# Altium footprint library con-pinhead.PcbLib: 23 footprints (part 1 of 2)
Each footprint in its own frame and in the unit in brackets; x right, y up, seen from the top. Pads: shape width x height; smd on the part's side, far side on the other; paste and mask are expansions set on the pad; w line width, h text height; cw(c..) or ccw(c..) is an arc to the next point about the centre after c.
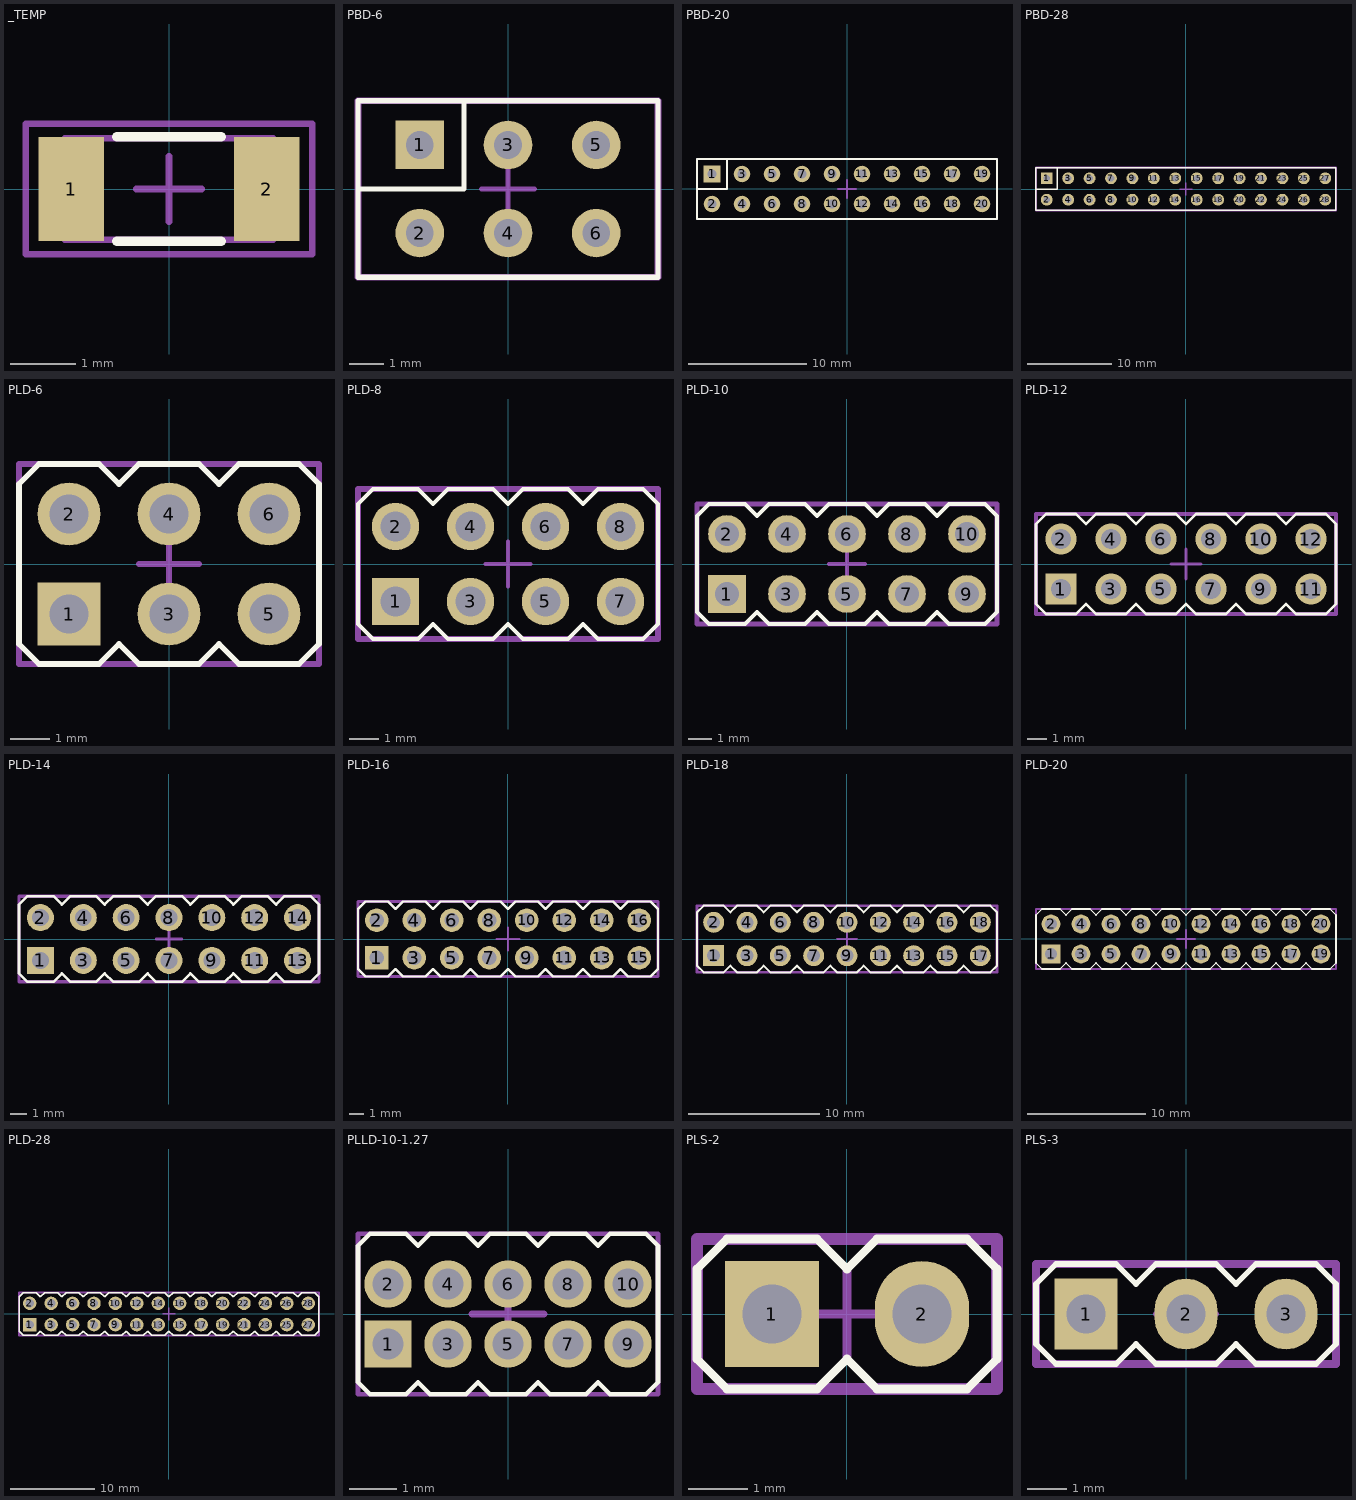
[diagram p0: the footprints below, top view; thin cyan lines are the x and y axes]

## _TEMP [mm]
height 0.6
pads (2):
  rect 1x1.6 smd: 1(-1.5,0) 2(1.5,0)
Top Overlay:
  lines w0.15: -0.8,-0.8 0.8,-0.8 ; -0.8,0.8 0.8,0.8
Top Assembly (Mech3):
  lines w0.1: -1.6,-0.775 1.6,-0.775 1.6,0.775 -1.6,0.775 -1.6,-0.775
Top Courtyard:
  lines w0.1: -0.5,0 0.5,0 ; 0,-0.5 0,0.5 ; -2.2,-1 -2.2,1 2.2,1 2.2,-1 -2.2,-1
3D body "chip_1206_r.STEP": height 0.47, standoff -0.03, extent -1.65,-0.8 1.55,0.8

## PBD-6 [mm]
height 8.5
pads (6):
  rect 1.4x1.4 hole 0.8: 1(-2.54,1.27)
  round 1.4 hole 0.8: 2(-2.54,-1.27) 3(0,1.27) 4(0,-1.27) 5(2.54,1.27) 6(2.54,-1.27)
Top Overlay:
  lines w0.15: -1.27,2.54 -1.27,0 -4.318,0 ; -4.318,0 -4.318,-2.54 4.318,-2.54 4.318,0 4.318,2.54 -4.318,2.54 -4.318,0
Top Assembly (Mech3):
  lines w0.15: -4.318,-2.54 4.318,-2.54 4.318,0 4.318,2.54 -4.318,2.54 -4.318,0 -4.318,-2.54
Top Courtyard:
  lines w0.15: -0.762,0 0.762,0 ; 0,-0.762 0,0.762
  lines w0.2: -4.318,-2.54 -4.318,2.54 4.318,2.54 4.318,-2.54 -4.318,-2.54
3D body "DS1023-2x3SF11.stp": height 8.5, standoff -3, extent -4.21,-2.54 4.21,2.46

## PBD-20 [mm]
height 8.5
pads (20):
  rect 1.4x1.4 hole 0.8: 1(-11.43,1.27)
  round 1.4 hole 0.8: 2(-11.43,-1.27) 3(-8.89,1.27) 4(-8.89,-1.27) 5(-6.35,1.27) 6(-6.35,-1.27) 7(-3.81,1.27) 8(-3.81,-1.27) 9(-1.27,1.27) 10(-1.27,-1.27) 11(1.27,1.27) 12(1.27,-1.27) 13(3.81,1.27) 14(3.81,-1.27) 15(6.35,1.27) 16(6.35,-1.27) 17(8.89,1.27) 18(8.89,-1.27) 19(11.43,1.27) 20(11.43,-1.27)
Top Overlay:
  lines w0.15: -10.16,2.54 -10.16,0 -12.7,0 ; -12.7,0 -12.7,-2.54 12.7,-2.54 12.7,0 12.7,2.54 -12.7,2.54 -12.7,0
Top Assembly (Mech3):
  lines w0.15: -12.7,-2.54 12.7,-2.54 12.7,0 12.7,2.54 -12.7,2.54 -12.7,0 -12.7,-2.54
Top Courtyard:
  lines w0.15: -0.762,0 0.762,0 ; 0,-0.762 0,0.762
  lines w0.2: -12.7,-2.54 -12.7,2.54 12.7,2.54 12.7,-2.54 -12.7,-2.54
3D body "User Library-PBD2_54-20.STEP": height 8.4, standoff -2.7, extent -12.7,-2.54 12.7,2.54

## PBD-28 [mm]
height 8.5
pads (28):
  rect 1.4x1.4 hole 0.8: 1(-16.51,1.27)
  round 1.4 hole 0.8: 2(-16.51,-1.27) 3(-13.97,1.27) 4(-13.97,-1.27) 5(-11.43,1.27) 6(-11.43,-1.27) 7(-8.89,1.27) 8(-8.89,-1.27) 9(-6.35,1.27) 10(-6.35,-1.27) 11(-3.81,1.27) 12(-3.81,-1.27) 13(-1.27,1.27) 14(-1.27,-1.27) 15(1.27,1.27) 16(1.27,-1.27) 17(3.81,1.27) 18(3.81,-1.27) 19(6.35,1.27) 20(6.35,-1.27) 21(8.89,1.27) 22(8.89,-1.27) 23(11.43,1.27) 24(11.43,-1.27) 25(13.97,1.27) 26(13.97,-1.27) 27(16.51,1.27) 28(16.51,-1.27)
Top Overlay:
  lines w0.15: -15.24,2.54 -15.24,0 -17.78,0 ; -17.78,0 -17.78,-2.54 17.78,-2.54 17.78,0 17.78,2.54 -17.78,2.54 -17.78,0
Top Assembly (Mech3):
  lines w0.15: -17.78,-2.54 17.78,-2.54 17.78,0 17.78,2.54 -17.78,2.54 -17.78,0 -17.78,-2.54
Top Courtyard:
  lines w0.15: -0.762,0 0.762,0 ; 0,-0.762 0,0.762
  lines w0.2: -17.78,-2.54 -17.78,2.54 17.78,2.54 17.78,-2.54 -17.78,-2.54
3D body "User Library-PBD2_54-28.STEP": height 8.4, standoff -2.7, extent -17.78,-2.54 17.78,2.54

## PLD-6 [mm]
height 6
pads (6):
  rect 1.6x1.6 hole 1: 1(-2.54,-1.27)
  round 1.6 hole 1: 2(-2.54,1.27) 3(0,-1.27) 4(0,1.27) 5(2.54,-1.27) 6(2.54,1.27)
Top Overlay:
  lines w0.15: -3.81,-2.032 -3.302,-2.54 -1.778,-2.54 -1.27,-2.032 -0.762,-2.54 0.762,-2.54 1.27,-2.032 1.778,-2.54 3.302,-2.54 3.81,-2.032 3.81,2.032 3.302,2.54 1.778,2.54 1.27,2.032 0.762,2.54 -0.762,2.54 -1.27,2.032 -1.778,2.54 -3.302,2.54 -3.81,2.032 -3.81,-2.032
Top Assembly (Mech3):
  lines w0.15: -3.81,-2.54 3.81,-2.54 3.81,0 3.81,2.54 -3.81,2.54 -3.81,0 -3.81,-2.54
Top Courtyard:
  lines w0.15: -0.762,0 0.762,0 ; 0,-0.762 0,0.762 ; -3.81,-2.54 -3.81,0 -3.81,2.54 3.81,2.54 3.81,0 3.81,-2.54 -3.81,-2.54
3D body "PLD-6_(DS1021_CONNFLY).stp": height 8.7, standoff -3, extent -3.81,-2.54 3.81,2.54

## PLD-8 [mm]
height 6
pads (8):
  rect 1.6x1.6 hole 1: 1(-3.81,-1.27)
  round 1.6 hole 1: 2(-3.81,1.27) 3(-1.27,-1.27) 4(-1.27,1.27) 5(1.27,-1.27) 6(1.27,1.27) 7(3.81,-1.27) 8(3.81,1.27)
Top Overlay:
  lines w0.15: -5.08,-2.032 -5.08,2.032 -4.572,2.54 -3.048,2.54 -2.54,2.032 -2.032,2.54 -0.508,2.54 0,2.032 0.508,2.54 2.032,2.54 2.54,2.032 3.048,2.54 4.572,2.54 5.08,2.032 5.08,-2.032 4.572,-2.54 3.048,-2.54 2.54,-2.032 2.032,-2.54 0.508,-2.54 0,-2.032 -0.508,-2.54 -2.032,-2.54 -2.54,-2.032 -3.048,-2.54 -4.572,-2.54 -5.08,-2.032
Top Assembly (Mech3):
  lines w0.15: -5.08,-2.54 5.08,-2.54 5.08,0 5.08,2.54 -5.08,2.54 -5.08,0 -5.08,-2.54
Top Courtyard:
  lines w0.15: -0.762,0 0.762,0 ; 0,-0.762 0,0.762
  lines w0.2: -5.08,-2.54 5.08,-2.54 5.08,2.54 -5.08,2.54 -5.08,-2.54
3D body "PLD-8_(DS1021_CONNFLY).stp": height 8.7, standoff -3, extent -5.08,-2.54 5.08,2.54

## PLD-10 [mm]
height 6
pads (10):
  rect 1.6x1.6 hole 1: 1(-5.08,-1.27)
  round 1.6 hole 1: 2(-5.08,1.27) 3(-2.54,-1.27) 4(-2.54,1.27) 5(0,-1.27) 6(0,1.27) 7(2.54,-1.27) 8(2.54,1.27) 9(5.08,-1.27) 10(5.08,1.27)
Top Overlay:
  lines w0.15: -6.35,-2.032 -5.842,-2.54 -4.318,-2.54 -3.81,-2.032 -3.302,-2.54 -1.778,-2.54 -1.27,-2.032 -0.762,-2.54 0.762,-2.54 1.27,-2.032 1.778,-2.54 3.302,-2.54 3.81,-2.032 4.318,-2.54 5.842,-2.54 6.35,-2.032 6.35,2.032 5.842,2.54 4.318,2.54 3.81,2.032 3.302,2.54 1.778,2.54 1.27,2.032 0.762,2.54 -0.762,2.54 -1.27,2.032 -1.778,2.54 -3.302,2.54 -3.81,2.032 -4.318,2.54 -5.842,2.54 -6.35,2.032 -6.35,-2.032
Top Assembly (Mech3):
  lines w0.15: -6.35,-2.54 -6.35,0 -6.35,2.54 6.35,2.54 6.35,0 6.35,-2.54 -6.35,-2.54
Top Courtyard:
  lines w0.15: -0.762,0 0.762,0 ; 0,-0.762 0,0.762
  lines w0.2: -6.35,-2.54 6.35,-2.54 6.35,2.54 -6.35,2.54 -6.35,-2.54
3D body "PLD-10_(DS1021_CONNFLY).stp": height 8.7, standoff -3, extent -6.35,-2.54 6.35,2.54

## PLD-12 [mm]
height 6
pads (12):
  rect 1.6x1.6 hole 1: 1(-6.35,-1.27)
  round 1.6 hole 1: 2(-6.35,1.27) 3(-3.81,-1.27) 4(-3.81,1.27) 5(-1.27,-1.27) 6(-1.27,1.27) 7(1.27,-1.27) 8(1.27,1.27) 9(3.81,-1.27) 10(3.81,1.27) 11(6.35,-1.27) 12(6.35,1.27)
Top Overlay:
  lines w0.15: -7.62,-2.032 -7.62,2.032 -7.112,2.54 -5.588,2.54 -5.08,2.032 -4.572,2.54 -3.048,2.54 -2.54,2.032 -2.032,2.54 -0.508,2.54 0,2.032 0.508,2.54 2.032,2.54 2.54,2.032 3.048,2.54 4.572,2.54 5.08,2.032 5.588,2.54 7.112,2.54 7.62,2.032 7.62,-2.032 7.112,-2.54 5.588,-2.54 5.08,-2.032 4.572,-2.54 3.048,-2.54 2.54,-2.032 2.032,-2.54 0.508,-2.54 0,-2.032 -0.508,-2.54 -2.032,-2.54 -2.54,-2.032 -3.048,-2.54 -4.572,-2.54 -5.08,-2.032 -5.588,-2.54 -7.112,-2.54 -7.62,-2.032
Top Assembly (Mech3):
  lines w0.15: -7.62,-2.54 -7.62,0 -7.62,2.54 7.62,2.54 7.62,-2.54 -7.62,-2.54
Top Courtyard:
  lines w0.15: -0.762,0 0.762,0 ; 0,-0.762 0,0.762
  lines w0.2: -7.62,-2.54 7.62,-2.54 7.62,2.54 -7.62,2.54 -7.62,-2.54
3D body "DS1021-2x6SF11.stp": height 8.6, standoff -3, extent -7.62,-2.5 7.62,2.5

## PLD-14 [mm]
pads (14):
  rect 1.6x1.6 hole 1: 1(-7.62,-1.27)
  round 1.6 hole 1: 2(-7.62,1.27) 3(-5.08,-1.27) 4(-5.08,1.27) 5(-2.54,-1.27) 6(-2.54,1.27) 7(0,-1.27) 8(0,1.27) 9(2.54,-1.27) 10(2.54,1.27) 11(5.08,-1.27) 12(5.08,1.27) 13(7.62,-1.27) 14(7.62,1.27)
Top Overlay:
  lines w0.15: -8.89,-2.032 -8.89,2.032 -8.382,2.54 -6.858,2.54 -6.35,2.032 -5.842,2.54 -4.318,2.54 -3.81,2.032 -3.302,2.54 -1.778,2.54 -1.27,2.032 -0.762,2.54 0.762,2.54 1.27,2.032 1.778,2.54 3.302,2.54 3.81,2.032 4.318,2.54 5.842,2.54 6.35,2.032 6.858,2.54 8.382,2.54 8.89,2.032 8.89,-2.032 8.382,-2.54 6.858,-2.54 6.35,-2.032 5.842,-2.54 4.318,-2.54 3.81,-2.032 3.302,-2.54 1.778,-2.54 1.27,-2.032 0.762,-2.54 -0.762,-2.54 -1.27,-2.032 -1.778,-2.54 -3.302,-2.54 -3.81,-2.032 -4.318,-2.54 -5.842,-2.54 -6.35,-2.032 -6.858,-2.54 -8.382,-2.54 -8.89,-2.032
Top Assembly (Mech3):
  lines w0.15: -8.89,-2.54 8.89,-2.54 8.89,2.54 -8.89,2.54 -8.89,0 -8.89,-2.54
Top Courtyard:
  lines w0.15: -0.762,0 0.762,0 ; 0,-0.762 0,0.762
  lines w0.2: -8.89,-2.54 -8.89,2.54 8.89,2.54 8.89,-2.54 -8.89,-2.54
3D body "DS1021-2x7S61.stp": height 8.6, standoff -3, extent -8.89,-2.5 8.89,2.5

## PLD-16 [mm]
pads (16):
  rect 1.6x1.6 hole 1: 1(-8.89,-1.27)
  round 1.6 hole 1: 2(-8.89,1.27) 3(-6.35,-1.27) 4(-6.35,1.27) 5(-3.81,-1.27) 6(-3.81,1.27) 7(-1.27,-1.27) 8(-1.27,1.27) 9(1.27,-1.27) 10(1.27,1.27) 11(3.81,-1.27) 12(3.81,1.27) 13(6.35,-1.27) 14(6.35,1.27) 15(8.89,-1.27) 16(8.89,1.27)
Top Overlay:
  lines w0.15: -10.16,-2.032 -10.16,2.032 -9.652,2.54 -8.128,2.54 -7.62,2.032 -7.112,2.54 -5.588,2.54 -5.08,2.032 -4.572,2.54 -3.048,2.54 -2.54,2.032 -2.032,2.54 -0.508,2.54 0,2.032 0.508,2.54 2.032,2.54 2.54,2.032 3.048,2.54 4.572,2.54 5.08,2.032 5.588,2.54 7.112,2.54 7.62,2.032 8.128,2.54 9.652,2.54 10.16,2.032 10.16,-2.032 9.652,-2.54 8.128,-2.54 7.62,-2.032 7.112,-2.54 5.588,-2.54 5.08,-2.032 4.572,-2.54 3.048,-2.54 2.54,-2.032 2.032,-2.54 0.508,-2.54 0,-2.032 -0.508,-2.54 -2.032,-2.54 -2.54,-2.032 -3.048,-2.54 -4.572,-2.54 -5.08,-2.032 -5.588,-2.54 -7.112,-2.54 -7.62,-2.032 -8.128,-2.54 -9.652,-2.54 -10.16,-2.032
Top Assembly (Mech3):
  lines w0.15: -10.16,-2.54 10.16,-2.54 10.16,2.54 -10.16,2.54 -10.16,0 -10.16,-2.54
Top Courtyard:
  lines w0.15: -0.762,0 0.762,0 ; 0,-0.762 0,0.762
  lines w0.2: -10.16,-2.54 -10.16,2.54 10.16,2.54 10.16,-2.54 -10.16,-2.54
3D body "DS1021-2x8S61.stp": height 8.6, standoff -3, extent -10.16,-2.5 10.16,2.5

## PLD-18 [mm]
pads (18):
  rect 1.6x1.6 hole 1: 1(-10.16,-1.27)
  round 1.6 hole 1: 2(-10.16,1.27) 3(-7.62,-1.27) 4(-7.62,1.27) 5(-5.08,-1.27) 6(-5.08,1.27) 7(-2.54,-1.27) 8(-2.54,1.27) 9(0,-1.27) 10(0,1.27) 11(2.54,-1.27) 12(2.54,1.27) 13(5.08,-1.27) 14(5.08,1.27) 15(7.62,-1.27) 16(7.62,1.27) 17(10.16,-1.27) 18(10.16,1.27)
Top Overlay:
  lines w0.15: -11.43,-2.032 -11.43,2.032 -10.922,2.54 -9.398,2.54 -8.89,2.032 -8.382,2.54 -6.858,2.54 -6.35,2.032 -5.842,2.54 -4.318,2.54 -3.81,2.032 -3.302,2.54 -1.778,2.54 -1.27,2.032 -0.762,2.54 0.762,2.54 1.27,2.032 1.778,2.54 3.302,2.54 3.81,2.032 4.318,2.54 5.842,2.54 6.35,2.032 6.858,2.54 8.382,2.54 8.89,2.032 9.398,2.54 10.922,2.54 11.43,2.032 11.43,-2.032 10.922,-2.54 9.398,-2.54 8.89,-2.032 8.382,-2.54 6.858,-2.54 6.35,-2.032 5.842,-2.54 4.318,-2.54 3.81,-2.032 3.302,-2.54 1.778,-2.54 1.27,-2.032 0.762,-2.54 -0.762,-2.54 -1.27,-2.032 -1.778,-2.54 -3.302,-2.54 -3.81,-2.032 -4.318,-2.54 -5.842,-2.54 -6.35,-2.032 -6.858,-2.54 -8.382,-2.54 -8.89,-2.032 -9.398,-2.54 -10.922,-2.54 -11.43,-2.032
Top Assembly (Mech3):
  lines w0.15: -11.43,-2.54 11.43,-2.54 11.43,2.54 -11.43,2.54 -11.43,0 -11.43,-2.54
Top Courtyard:
  lines w0.15: -0.762,0 0.762,0 ; 0,-0.762 0,0.762
  lines w0.2: -11.43,-2.54 -11.43,2.54 11.43,2.54 11.43,-2.54 -11.43,-2.54
3D body "DS1021-2x9S61.stp": height 8.6, standoff -3, extent -11.43,-2.5 11.43,2.5

## PLD-20 [mm]
height 6
pads (20):
  rect 1.6x1.6 hole 1: 1(-11.43,-1.27)
  round 1.6 hole 1: 2(-11.43,1.27) 3(-8.89,-1.27) 4(-8.89,1.27) 5(-6.35,-1.27) 6(-6.35,1.27) 7(-3.81,-1.27) 8(-3.81,1.27) 9(-1.27,-1.27) 10(-1.27,1.27) 11(1.27,-1.27) 12(1.27,1.27) 13(3.81,-1.27) 14(3.81,1.27) 15(6.35,-1.27) 16(6.35,1.27) 17(8.89,-1.27) 18(8.89,1.27) 19(11.43,-1.27) 20(11.43,1.27)
Top Overlay:
  lines w0.15: -12.7,-2.032 -12.7,2.032 -12.192,2.54 -10.668,2.54 -10.16,2.032 -9.652,2.54 -8.128,2.54 -7.62,2.032 -7.112,2.54 -5.588,2.54 -5.08,2.032 -4.572,2.54 -3.048,2.54 -2.54,2.032 -2.032,2.54 -0.508,2.54 0,2.032 0.508,2.54 2.032,2.54 2.54,2.032 3.048,2.54 4.572,2.54 5.08,2.032 5.588,2.54 7.112,2.54 7.62,2.032 8.128,2.54 9.652,2.54 10.16,2.032 10.668,2.54 12.192,2.54 12.7,2.032 12.7,-2.032 12.192,-2.54 10.668,-2.54 10.16,-2.032 9.652,-2.54 8.128,-2.54 7.62,-2.032 7.112,-2.54 5.588,-2.54 5.08,-2.032 4.572,-2.54 3.048,-2.54 2.54,-2.032 2.032,-2.54 0.508,-2.54 0,-2.032 -0.508,-2.54 -2.032,-2.54 -2.54,-2.032 -3.048,-2.54 -4.572,-2.54 -5.08,-2.032 -5.588,-2.54 -7.112,-2.54 -7.62,-2.032 -8.128,-2.54 -9.652,-2.54 -10.16,-2.032 -10.668,-2.54 -12.192,-2.54 -12.7,-2.032
Top Assembly (Mech3):
  lines w0.15: -12.7,-2.54 12.7,-2.54 12.7,0 12.7,2.54 -12.7,2.54 -12.7,0 -12.7,-2.54
Top Courtyard:
  lines w0.15: -0.762,0 0.762,0 ; 0,-0.762 0,0.762
  lines w0.2: -12.7,-2.54 12.7,-2.54 12.7,2.54 -12.7,2.54 -12.7,-2.54
3D body "PLD-20_(DS1021_CONNFLY).stp": height 8.7, standoff -3, extent -12.7,-2.54 12.7,2.54

## PLD-28 [mm]
height 6
pads (28):
  rect 1.6x1.6 hole 1: 1(-16.51,-1.27)
  round 1.6 hole 1: 2(-16.51,1.27) 3(-13.97,-1.27) 4(-13.97,1.27) 5(-11.43,-1.27) 6(-11.43,1.27) 7(-8.89,-1.27) 8(-8.89,1.27) 9(-6.35,-1.27) 10(-6.35,1.27) 11(-3.81,-1.27) 12(-3.81,1.27) 13(-1.27,-1.27) 14(-1.27,1.27) 15(1.27,-1.27) 16(1.27,1.27) 17(3.81,-1.27) 18(3.81,1.27) 19(6.35,-1.27) 20(6.35,1.27) 21(8.89,-1.27) 22(8.89,1.27) 23(11.43,-1.27) 24(11.43,1.27) 25(13.97,-1.27) 26(13.97,1.27) 27(16.51,-1.27) 28(16.51,1.27)
Top Overlay:
  lines w0.15: -17.78,-2.032 -17.78,2.032 -17.272,2.54 -15.748,2.54 -15.24,2.032 -14.732,2.54 -13.208,2.54 -12.7,2.032 -12.192,2.54 -10.668,2.54 -10.16,2.032 -9.652,2.54 -8.128,2.54 -7.62,2.032 -7.112,2.54 -5.588,2.54 -5.08,2.032 -4.572,2.54 -3.048,2.54 -2.54,2.032 -2.032,2.54 -0.508,2.54 0,2.032 0.508,2.54 2.032,2.54 2.54,2.032 3.048,2.54 4.572,2.54 5.08,2.032 5.588,2.54 7.112,2.54 7.62,2.032 8.128,2.54 9.652,2.54 10.16,2.032 10.668,2.54 12.192,2.54 12.7,2.032 13.208,2.54 14.732,2.54 15.24,2.032 15.748,2.54 17.272,2.54 17.78,2.032 17.78,-2.032 17.272,-2.54 15.748,-2.54 15.24,-2.032 14.732,-2.54 13.208,-2.54 12.7,-2.032 12.192,-2.54 10.668,-2.54 10.16,-2.032 9.652,-2.54 8.128,-2.54 7.62,-2.032 7.112,-2.54 5.588,-2.54 5.08,-2.032 4.572,-2.54 3.048,-2.54 2.54,-2.032 2.032,-2.54 0.508,-2.54 0,-2.032 -0.508,-2.54 -2.032,-2.54 -2.54,-2.032 -3.048,-2.54 -4.572,-2.54 -5.08,-2.032 -5.588,-2.54 -7.112,-2.54 -7.62,-2.032 -8.128,-2.54 -9.652,-2.54 -10.16,-2.032 -10.668,-2.54 -12.192,-2.54 -12.7,-2.032 -13.208,-2.54 -14.732,-2.54 -15.24,-2.032 -15.748,-2.54 -17.272,-2.54 -17.78,-2.032
Top Assembly (Mech3):
  lines w0.15: -17.78,-2.54 -17.78,0 -17.78,2.54 17.78,2.54 17.78,0 17.78,-2.54 -17.78,-2.54
Top Courtyard:
  lines w0.15: -0.762,0 0.762,0 ; 0,-0.762 0,0.762
  lines w0.2: -17.78,-2.54 -17.78,2.54 17.78,2.54 17.78,-2.54 -17.78,-2.54
3D body "PLD-28_(DS1021_CONNFLY).stp": height 8.7, standoff -3, extent -17.78,-2.54 17.78,2.54

## PLLD-10-1.27 [mm]
height 6
pads (10):
  rect 1x1 hole 0.65: 1(-2.54,-0.635)
  round 1 hole 0.65: 2(-2.54,0.635) 3(-1.27,-0.635) 4(-1.27,0.635) 5(0,-0.635) 6(0,0.635) 7(1.27,-0.635) 8(1.27,0.635) 9(2.54,-0.635) 10(2.54,0.635)
Top Overlay:
  lines w0.1: -3.175,-1.446 -2.921,-1.7 -2.159,-1.7 -1.905,-1.446 -1.651,-1.7 -0.889,-1.7 -0.635,-1.446 -0.381,-1.7 0.381,-1.7 0.635,-1.446 0.889,-1.7 1.651,-1.7 1.905,-1.446 2.159,-1.7 2.921,-1.7 3.175,-1.446 3.175,1.446 2.921,1.7 2.159,1.7 1.905,1.446 1.651,1.7 0.889,1.7 0.635,1.446 0.381,1.7 -0.381,1.7 -0.635,1.446 -0.889,1.7 -1.651,1.7 -1.905,1.446 -2.159,1.7 -2.921,1.7 -3.175,1.446 -3.175,-1.446
Top Assembly (Mech3):
  lines w0.1: -3.175,-1.7 3.175,-1.7 3.175,0 3.175,1.7 -3.175,1.7 -3.175,0 -3.175,-1.7
Top Courtyard:
  lines w0.1: -3.175,-1.7 3.175,-1.7 3.175,0 3.175,1.7 -3.175,1.7 -3.175,0 -3.175,-1.7
  lines w0.15: -0.762,0 0.762,0 ; 0,-0.762 0,0.762

## PLS-2 [mm]
height 6
pads (2):
  rect 1.6x1.8 hole 1: 1(-1.27,0)
  oval 1.6x1.8 hole 1: 2(1.27,0)
Top Overlay:
  lines w0.15: -2.54,-0.762 -2.54,0.762 -2.032,1.27 -0.508,1.27 0,0.762 0.508,1.27 2.032,1.27 2.54,0.762 2.54,-0.762 2.032,-1.27 0.508,-1.27 0,-0.762 -0.508,-1.27 -2.032,-1.27 -2.54,-0.762
Top Assembly (Mech3):
  lines w0.15: -2.54,-1.27 2.54,-1.27 2.54,1.27 -2.54,1.27 -2.54,-1.27
Top Courtyard:
  lines w0.15: -0.762,0 0.762,0 ; 0,-0.762 0,0.762
  lines w0.2: -2.54,-1.27 2.54,-1.27 2.54,1.27 -2.54,1.27 -2.54,-1.27
3D body "PLS-2_(DS1021_CONNFLY).stp": height 8.7, standoff -3, extent -2.54,-1.27 2.54,1.27

## PLS-3 [mm]
height 6
pads (3):
  rect 1.6x1.8 hole 1: 1(-2.54,0)
  oval 1.6x1.8 hole 1: 2(0,0) 3(2.54,0)
Top Overlay:
  lines w0.15: -3.81,-0.762 -3.302,-1.27 -1.778,-1.27 -1.27,-0.762 -0.762,-1.27 0.762,-1.27 1.27,-0.762 1.778,-1.27 3.302,-1.27 3.81,-0.762 3.81,0.762 3.302,1.27 1.778,1.27 1.27,0.762 0.762,1.27 -0.762,1.27 -1.27,0.762 -1.778,1.27 -3.302,1.27 -3.81,0.762 -3.81,-0.762
Top Assembly (Mech3):
  lines w0.15: -3.81,-1.27 3.81,-1.27 3.81,1.27 -3.81,1.27 -3.81,-1.27
Top Courtyard:
  lines w0.15: -0.762,0 0.762,0 ; 0,-0.762 0,0.762
  lines w0.2: -3.81,-1.27 -3.81,1.27 3.81,1.27 3.81,-1.27 -3.81,-1.27